# Altium schematic symbol library ACS70331.SchLib: 1 symbol
Pins are listed as number, name and electrical type; pins without a type are passive.

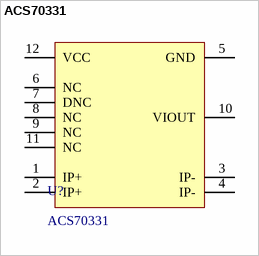
[diagram p0: symbol ACS70331]

## ACS70331
designator U?
footprint QFN50P300X300X80_HS-17N (QFN, 16-Leads, Body 3,00x3,00mm, Pitch 0,50mm, Thermal Pad 2,05x2,05mm, IPC Medium Density)
pins: 1 IP+, 2 IP+, 3 IP-, 4 IP-, 5 GND, 6 NC, 7 DNC, 8 NC, 9 NC, 10 VIOUT, 11 NC, 12 VCC